# EAGLE library part ESP-BOARD (library ESPstack)
STANDARIZED ESP-STACK BOARD
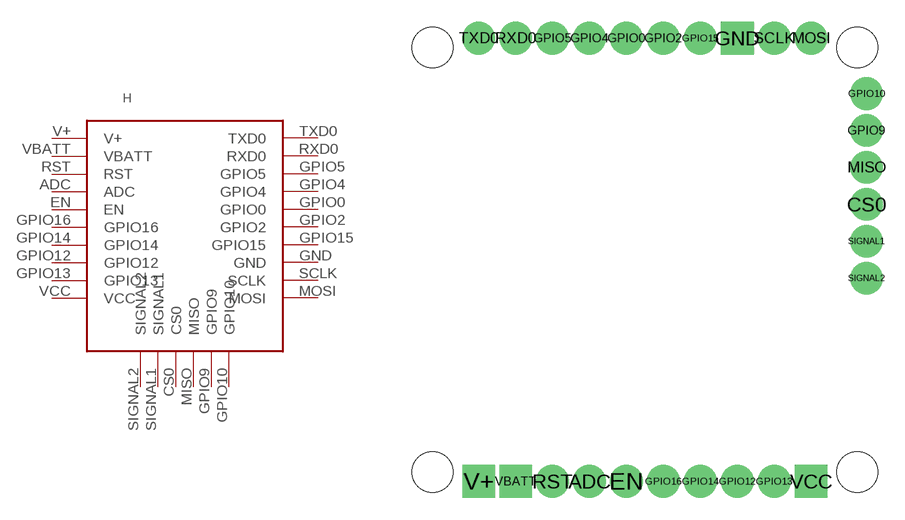
[diagram p0: symbol with the pads of ESP-BOARD; footprint ESP-BOARD]

Designator prefix H

## ESP-BOARD  [ESP-BOARD]
ADC  ADC
CS0  CS0
EN  EN
GND  GND  pwr
GPIO0  GPIO0
GPIO2  GPIO2
GPIO4  GPIO4
GPIO5  GPIO5
GPIO9  GPIO9
GPIO10  GPIO10
GPIO12  GPIO12
GPIO13  GPIO13
GPIO14  GPIO14
GPIO15  GPIO15
GPIO16  GPIO16
MISO  MISO
MOSI  MOSI
RST  RST
RXD0  RXD0
SCLK  SCLK
SIGNAL1  SIGNAL1
SIGNAL2  SIGNAL2
TXD0  TXD0
V+  V+  pwr
VBATT  VBATT  pwr
VCC  VCC  pwr

## Footprint ESP-BOARD (pad centres in mm)
drill 1.5 pad 2.184: ADC -10.16,-16.51; CS0 8.89,2.54; EN -7.62,-16.51; GPIO0 -7.62,13.97; GPIO2 -5.08,13.97; GPIO4 -10.16,13.97; GPIO5 -12.7,13.97; GPIO9 8.89,7.62; GPIO10 8.89,10.16; GPIO12 0,-16.51; GPIO13 2.54,-16.51; GPIO14 -2.54,-16.51; GPIO15 -2.54,13.97; GPIO16 -5.08,-16.51; MISO 8.89,5.08; MOSI 5.08,13.97; RST -12.7,-16.51; RXD0 -15.24,13.97; SCLK 2.54,13.97; SIGNAL1 8.89,0; SIGNAL2 8.89,-2.54; TXD0 -17.78,13.97
drill 1.5 pad 2.184 square: GND 0,13.97; V+ -17.78,-16.51; VBATT -15.24,-16.51; VCC 5.08,-16.51
hole 2.8 at 8.255,13.335
hole 2.8 at -20.955,13.335
hole 2.8 at 8.255,-15.875
hole 2.8 at -20.955,-15.875